# Altium footprint library CONNs.PcbLib: 19 footprints (part 2 of 2)
Each footprint in its own frame and in the unit in brackets; x right, y up, seen from the top. Pads: shape width x height; smd on the part's side, far side on the other; paste and mask are expansions set on the pad; w line width, h text height; cw(c..) or ccw(c..) is an arc to the next point about the centre after c.
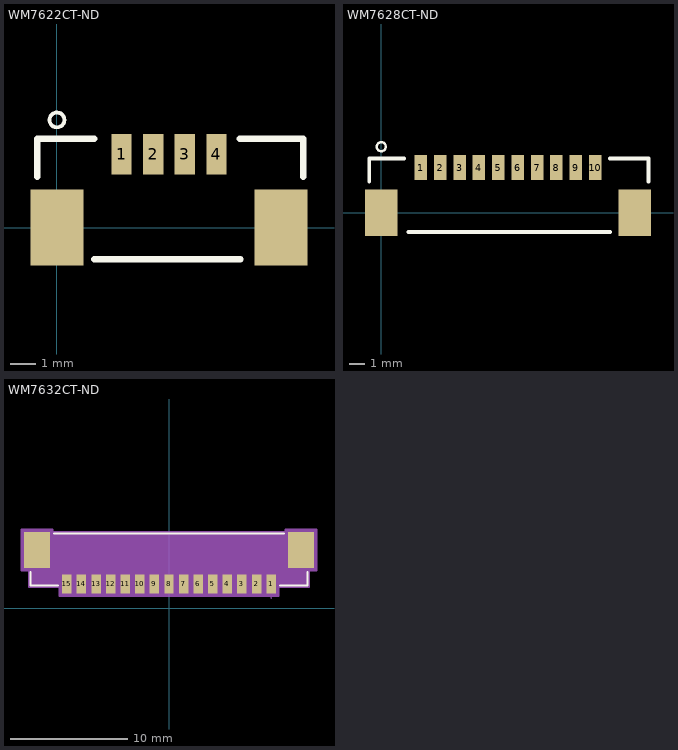
[diagram p1: the footprints below, top view; thin cyan lines are the x and y axes]

## WM7622CT-ND [mm] "Molex 4-Pos PicoBlade 53261"
height 3.2
pads (6):
  rect 0.8x1.6 smd: 1(2.55,2.9) 2(3.8,2.9) 3(5.05,2.9) 4(6.3,2.9)
  rect 2.1x3 smd: ""(0,0) ""(8.85,0)
Top Overlay:
  circle w0.15: c0,4.25 r0.293
  lines w0.254: -0.775,2 -0.775,3.5 1.475,3.5 ; 1.475,-1.25 7.25,-1.25 ; 7.225,3.5 9.725,3.5 9.725,2
3D body "[PicoBlade 4 Pos] 532610471.stp": height 3.4, standoff 0, extent -0.63,-1.771 9.52,3.429

## WM7628CT-ND [mm] "Molex PicoBlade 53261 10-Pos"
height 4.7
pads (12):
  rect 0.8x1.6 smd: 1(2.55,2.9) 2(3.8,2.9) 3(5.05,2.9) 4(6.3,2.9) 5(7.55,2.9) 6(8.8,2.9) 7(10.05,2.9) 8(11.3,2.9) 9(12.55,2.9) 10(13.8,2.9)
  rect 2.1x3 smd: ""(0,0) ""(16.35,0)
Top Overlay:
  circle w0.15: c0,4.25 r0.293
  lines w0.254: -0.775,2 -0.775,3.5 1.475,3.5 ; 1.75,-1.25 14.75,-1.25 ; 14.75,3.5 17.25,3.5 17.25,2
3D body "[PicoBlade 10 Pos] 532611071.stp": height 3.4, standoff 0, extent -0.57,-1.737 17.08,3.463

## WM7632CT-ND [mil] "Molex PicoBlade 53261 15 Pos"
pads (17):
  rect 32x63 smd: 1(344.49,82.5) 2(295.28,82.5) 3(246.06,82.5) 4(196.85,82.5) 5(147.64,82.5) 6(98.43,82.5) 7(49.21,82.5) 8(0,82.5) 9(-49.21,82.5) 10(-98.43,82.5) 11(-147.64,82.5) 12(-196.85,82.5) 13(-246.06,82.5) 14(-295.28,82.5) 15(-344.49,82.5)
  rect 87x122 smd: ""(-444.88,196.67) ""(444.88,196.67)
Top Overlay:
  lines w6: -467.5,122.57 -467.5,77.5 -373.59,77.5 ; -388.28,252.5 388.28,252.5 ; 373.59,77.5 467.5,77.5 467.5,122.57
Mechanical 13:
  lines w1: 319.49,82.5 344.49,32.5 369.49,82.5 ; -462.5,82.5 462.5,82.5 462.5,247.5 -462.5,247.5 -462.5,82.5
Mechanical 15:
  region: 472.5,72.5 472.5,127 498,127 498,267 393,267 393,257.5 -393,257.5 -393,267 -498,267 -498,127 -472.5,127 -472.5,72.5 -370,72.5 -370,41 370,41 370,72.5
  lines w6: -498,127 -472.5,127 -472.5,72.5 -370,72.5 -370,41 370,41 370,72.5 472.5,72.5 472.5,127 498,127 498,267 393,267 393,257.5 -393,257.5 -393,267 -498,267 -498,127
3D body "[PicoBlade 15 Pos] 532611571.stp": height 133.86, standoff 0, extent -470.47,58.67 470.48,263.4
3D body: height 10, standoff 0, extent 0,0 10,10